# Altium footprint library 贴片.PcbLib: 190 footprints (part 2 of 13)
Each footprint in its own frame and in the unit in brackets; x right, y up, seen from the top. Pads: shape width x height; smd on the part's side, far side on the other; paste and mask are expansions set on the pad; w line width, h text height; cw(c..) or ccw(c..) is an arc to the next point about the centre after c.
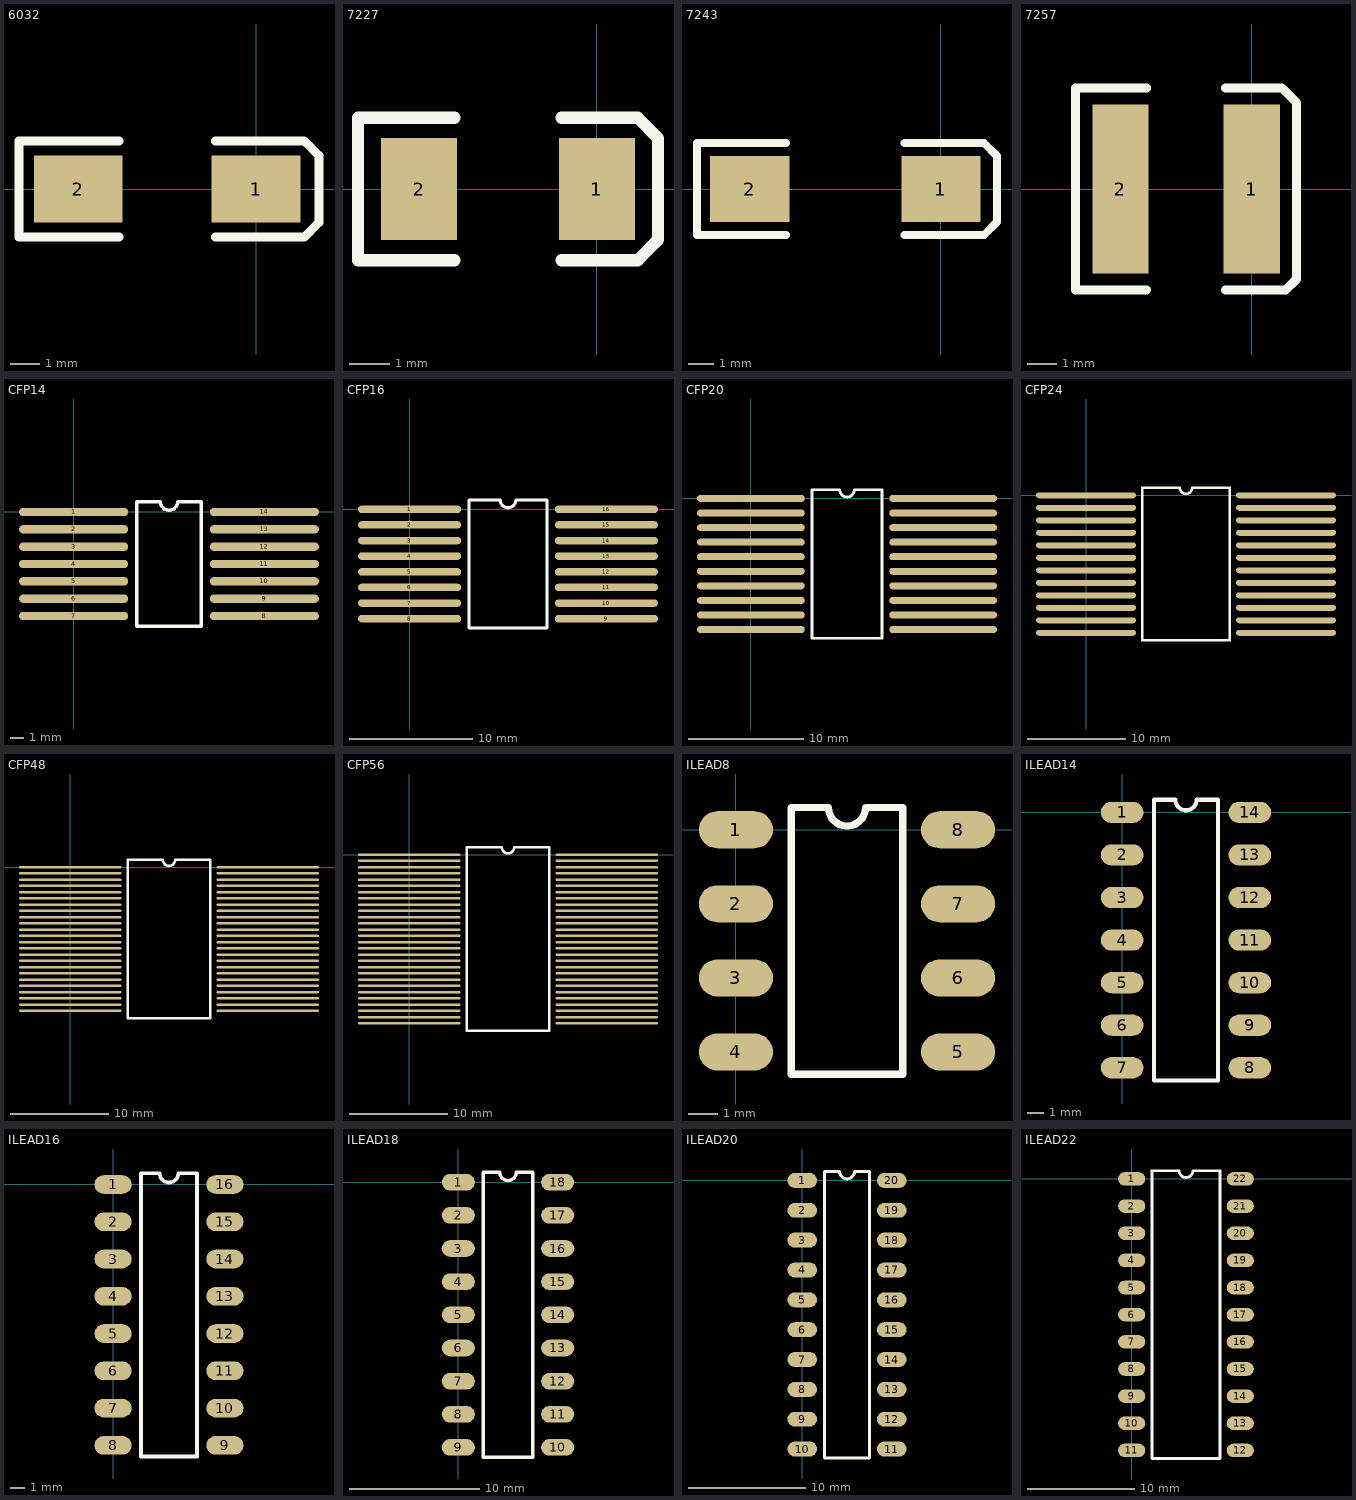
[diagram p1: the footprints below, top view; thin cyan lines are the x and y axes]

## 6032 [mil]
pads (2):
  rect 120x90 smd: 1(0,0) 2(-240,0)
TopOverlay:
  lines w12: -185,-65 -320,-65 -320,65 -185,65 ; -55,-65 65,-65 85,-45 85,45 65,65 -55,65

## 7227 [mil]
pads (2):
  rect 75x100 smd: 1(0,0) 2(-175,0)
TopOverlay:
  lines w12: -140,-70 -235,-70 -235,70 -140,70 ; -35,-70 40,-70 60,-50 60,50 40,70 -35,70

## 7243 [mil]
pads (2):
  rect 120x100 smd: 1(0,0) 2(-290,0)
TopOverlay:
  lines w12: -235,-70 -370,-70 -370,70 -235,70 ; -55,-70 65,-70 85,-50 85,50 65,70 -55,70

## 7257 [mil]
pads (2):
  rect 75x225 smd: 1(0,0) 2(-175,0)
TopOverlay:
  lines w12: -140,-135 -235,-135 -235,135 -140,135 ; -35,-135 45,-135 60,-120 60,115 40,135 -35,135

## CFP14 [mil]
pads (14):
  oval 315x24 smd: 1(0,0) 2(0,-50) 3(0,-100) 4(0,-150) 5(0,-200) 6(0,-250) 7(0,-300) 8(550,-300) 9(550,-250) 10(550,-200) 11(550,-150) 12(550,-100) 13(550,-50) 14(550,0)
TopOverlay:
  lines w10: 182,-330 182,30 250,30 ccw(c275,30) 300,30 368,30 368,-330 182,-330

## CFP16 [mil]
pads (16):
  oval 330x24 smd: 1(0,0) 2(0,-50) 3(0,-100) 4(0,-150) 5(0,-200) 6(0,-250) 7(0,-300) 8(0,-350) 9(630,-350) 10(630,-300) 11(630,-250) 12(630,-200) 13(630,-150) 14(630,-100) 15(630,-50) 16(630,0)
TopOverlay:
  lines w10: 190,-380 190,30 290,30 ccw(c315,30) 340,30 440,30 440,-380 190,-380

## CFP20 [mil]
pads (20):
  oval 370x24 smd: 1(0,0) 2(0,-50) 3(0,-100) 4(0,-150) 5(0,-200) 6(0,-250) 7(0,-300) 8(0,-350) 9(0,-400) 10(0,-450) 11(660,-450) 12(660,-400) 13(660,-350) 14(660,-300) 15(660,-250) 16(660,-200) 17(660,-150) 18(660,-100) 19(660,-50) 20(660,0)
TopOverlay:
  lines w10: 210,-480 450,-480 450,30 355,30 cw(c330,30) 305,30 210,30 210,-480

## CFP24 [mil]
pads (24):
  oval 400x24 smd: 1(0,0) 2(0,-50) 3(0,-100) 4(0,-150) 5(0,-200) 6(0,-250) 7(0,-300) 8(0,-350) 9(0,-400) 10(0,-450) 11(0,-500) 12(0,-550) 13(800,-550) 14(800,-500) 15(800,-450) 16(800,-400) 17(800,-350) 18(800,-300) 19(800,-250) 20(800,-200) 21(800,-150) 22(800,-100) 23(800,-50) 24(800,0)
TopOverlay:
  lines w10: 225,-580 225,30 375,30 ccw(c400,30) 425,30 575,30 575,-580 225,-580

## CFP48 [mil]
pads (48):
  oval 410x10 smd: 1(0,0) 2(0,-25) 3(0,-50) 4(0,-75) 5(0,-100) 6(0,-125) 7(0,-150) 8(0,-175) 9(0,-200) 10(0,-225) 11(0,-250) 12(0,-275) 13(0,-300) 14(0,-325) 15(0,-350) 16(0,-375) 17(0,-400) 18(0,-425) 19(0,-450) 20(0,-475) 21(0,-500) 22(0,-525) 23(0,-550) 24(0,-575) 25(790,-575) 26(790,-550) 27(790,-525) 28(790,-500) 29(790,-475) 30(790,-450) 31(790,-425) 32(790,-400) 33(790,-375) 34(790,-350) 35(790,-325) 36(790,-300) 37(790,-275) 38(790,-250) 39(790,-225) 40(790,-200) 41(790,-175) 42(790,-150) 43(790,-125) 44(790,-100) 45(790,-75) 46(790,-50) 47(790,-25) 48(790,0)
TopOverlay:
  lines w10: 230,-605 560,-605 560,30 420,30 cw(c395,30) 370,30 230,30 230,-605

## CFP56 [mil]
pads (56):
  oval 410x10 smd: 1(0,0) 2(0,-25) 3(0,-50) 4(0,-75) 5(0,-100) 6(0,-125) 7(0,-150) 8(0,-175) 9(0,-200) 10(0,-225) 11(0,-250) 12(0,-275) 13(0,-300) 14(0,-325) 15(0,-350) 16(0,-375) 17(0,-400) 18(0,-425) 19(0,-450) 20(0,-475) 21(0,-500) 22(0,-525) 23(0,-550) 24(0,-575) 25(0,-600) 26(0,-625) 27(0,-650) 28(0,-675) 29(790,-675) 30(790,-650) 31(790,-625) 32(790,-600) 33(790,-575) 34(790,-550) 35(790,-525) 36(790,-500) 37(790,-475) 38(790,-450) 39(790,-425) 40(790,-400) 41(790,-375) 42(790,-350) 43(790,-325) 44(790,-300) 45(790,-275) 46(790,-250) 47(790,-225) 48(790,-200) 49(790,-175) 50(790,-150) 51(790,-125) 52(790,-100) 53(790,-75) 54(790,-50) 55(790,-25) 56(790,0)
TopOverlay:
  lines w10: 230,-705 560,-705 560,30 420,30 cw(c395,30) 370,30 230,30 230,-705

## ILEAD8 [mil]
pads (8):
  oval 100x50 smd: 1(0,0) 2(0,-100) 3(0,-200) 4(0,-300) 5(300,-300) 6(300,-200) 7(300,-100) 8(300,0)
TopOverlay:
  lines w10: 75,-330 75,30 125,30 ccw(c150,30) 175,30 225,30 225,-330 75,-330

## ILEAD14 [mil]
pads (14):
  oval 100x50 smd: 1(0,0) 2(0,-100) 3(0,-200) 4(0,-300) 5(0,-400) 6(0,-500) 7(0,-600) 8(300,-600) 9(300,-500) 10(300,-400) 11(300,-300) 12(300,-200) 13(300,-100) 14(300,0)
TopOverlay:
  lines w10: 75,-630 225,-630 225,30 175,30 cw(c150,30) 125,30 75,30 75,-630

## ILEAD16 [mil]
pads (16):
  oval 100x50 smd: 1(0,0) 2(0,-100) 3(0,-200) 4(0,-300) 5(0,-400) 6(0,-500) 7(0,-600) 8(0,-700) 9(300,-700) 10(300,-600) 11(300,-500) 12(300,-400) 13(300,-300) 14(300,-200) 15(300,-100) 16(300,0)
TopOverlay:
  lines w10: 75,-730 75,30 125,30 ccw(c150,30) 175,30 225,30 225,-730 75,-730

## ILEAD18 [mil]
pads (18):
  oval 100x50 smd: 1(0,0) 2(0,-100) 3(0,-200) 4(0,-300) 5(0,-400) 6(0,-500) 7(0,-600) 8(0,-700) 9(0,-800) 10(300,-800) 11(300,-700) 12(300,-600) 13(300,-500) 14(300,-400) 15(300,-300) 16(300,-200) 17(300,-100) 18(300,0)
TopOverlay:
  lines w10: 75,-830 75,30 125,30 ccw(c150,30) 175,30 225,30 225,-830 75,-830

## ILEAD20 [mil]
pads (20):
  oval 100x50 smd: 1(0,0) 2(0,-100) 3(0,-200) 4(0,-300) 5(0,-400) 6(0,-500) 7(0,-600) 8(0,-700) 9(0,-800) 10(0,-900) 11(300,-900) 12(300,-800) 13(300,-700) 14(300,-600) 15(300,-500) 16(300,-400) 17(300,-300) 18(300,-200) 19(300,-100) 20(300,0)
TopOverlay:
  lines w10: 75,-930 225,-930 225,30 175,30 cw(c150,30) 125,30 75,30 75,-930

## ILEAD22 [mil]
pads (22):
  oval 100x50 smd: 1(0,0) 2(0,-100) 3(0,-200) 4(0,-300) 5(0,-400) 6(0,-500) 7(0,-600) 8(0,-700) 9(0,-800) 10(0,-900) 11(0,-1000) 12(400,-1000) 13(400,-900) 14(400,-800) 15(400,-700) 16(400,-600) 17(400,-500) 18(400,-400) 19(400,-300) 20(400,-200) 21(400,-100) 22(400,0)
TopOverlay:
  lines w10: 75,-1030 75,30 175,30 ccw(c200,30) 225,30 325,30 325,-1030 75,-1030